# Altium schematic symbol library XCAU10P-1FFVB676E.SchLib: 1 symbol
Pins are listed as number, name and electrical type; pins without a type are passive.

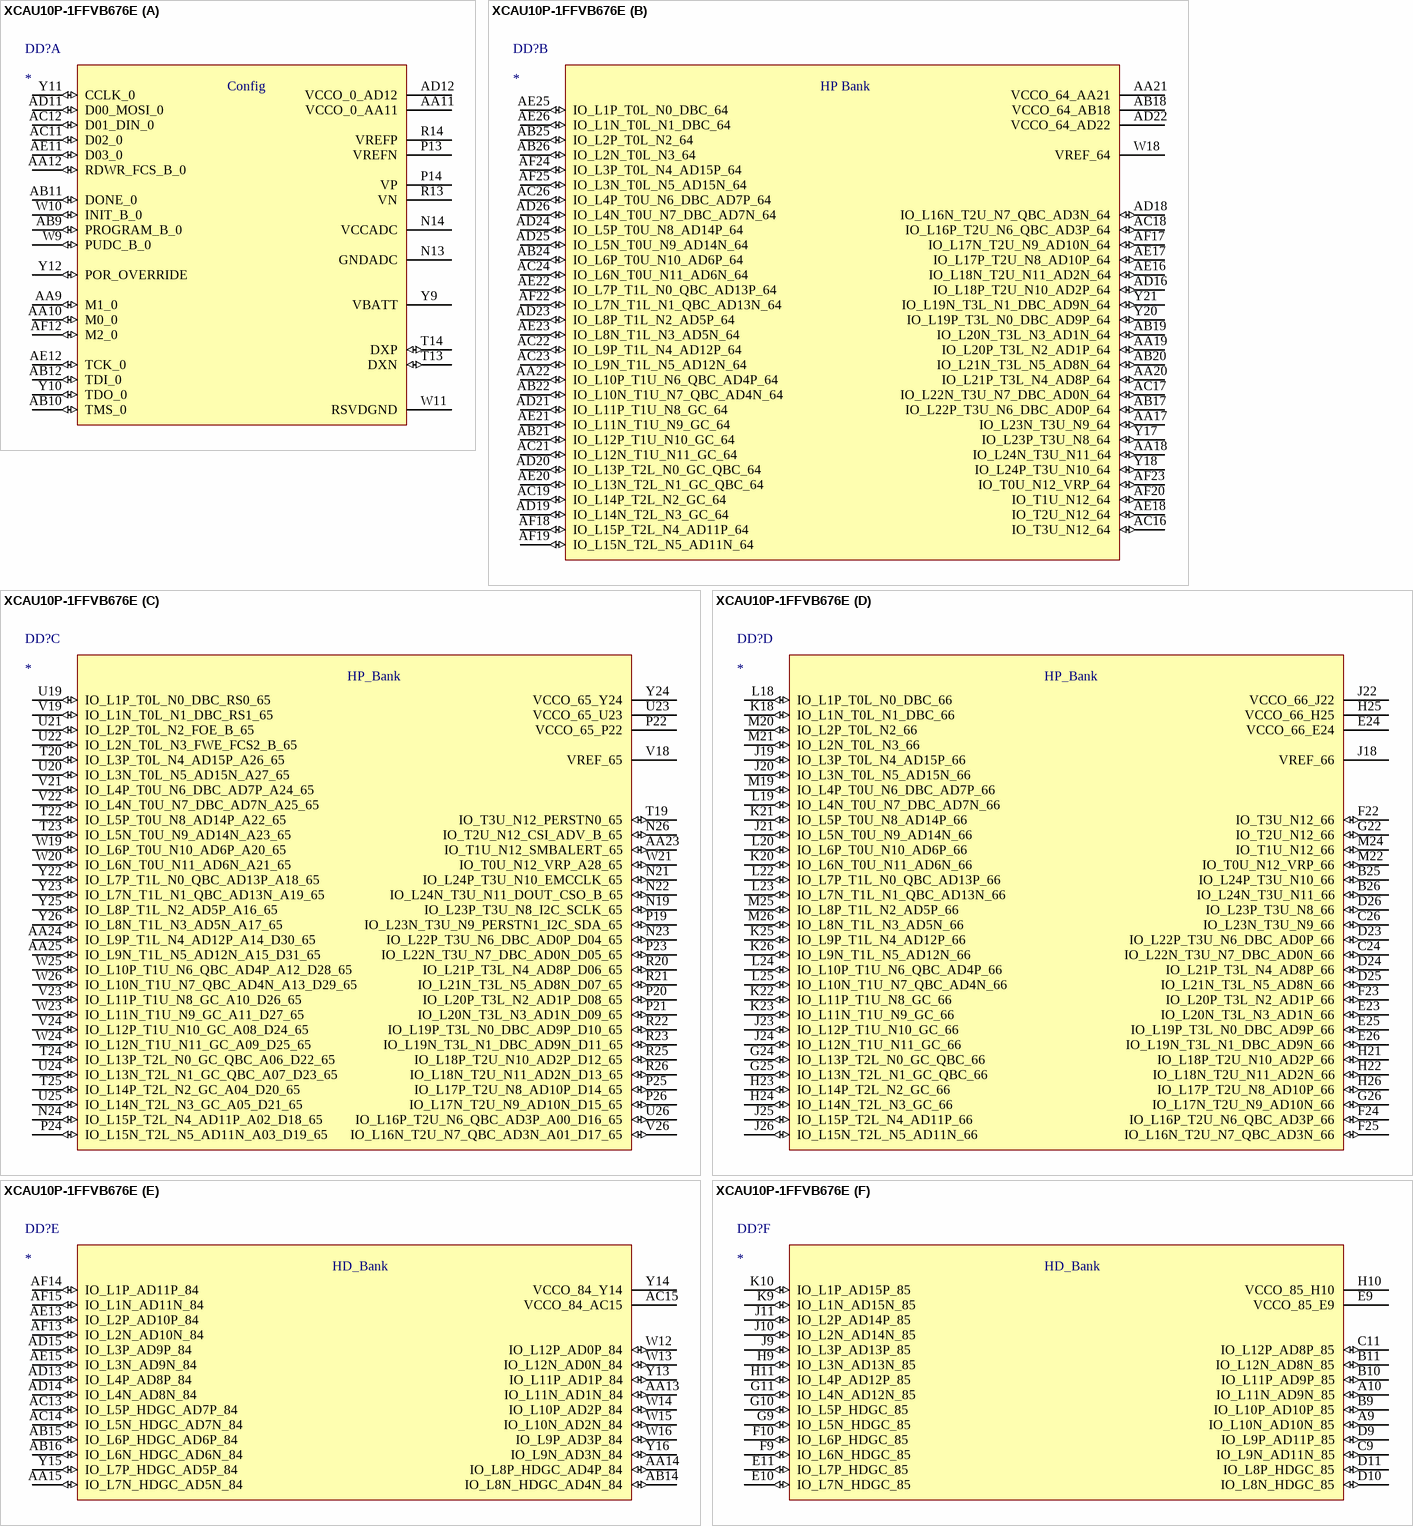
[diagram p0: symbol XCAU10P-1FFVB676E]

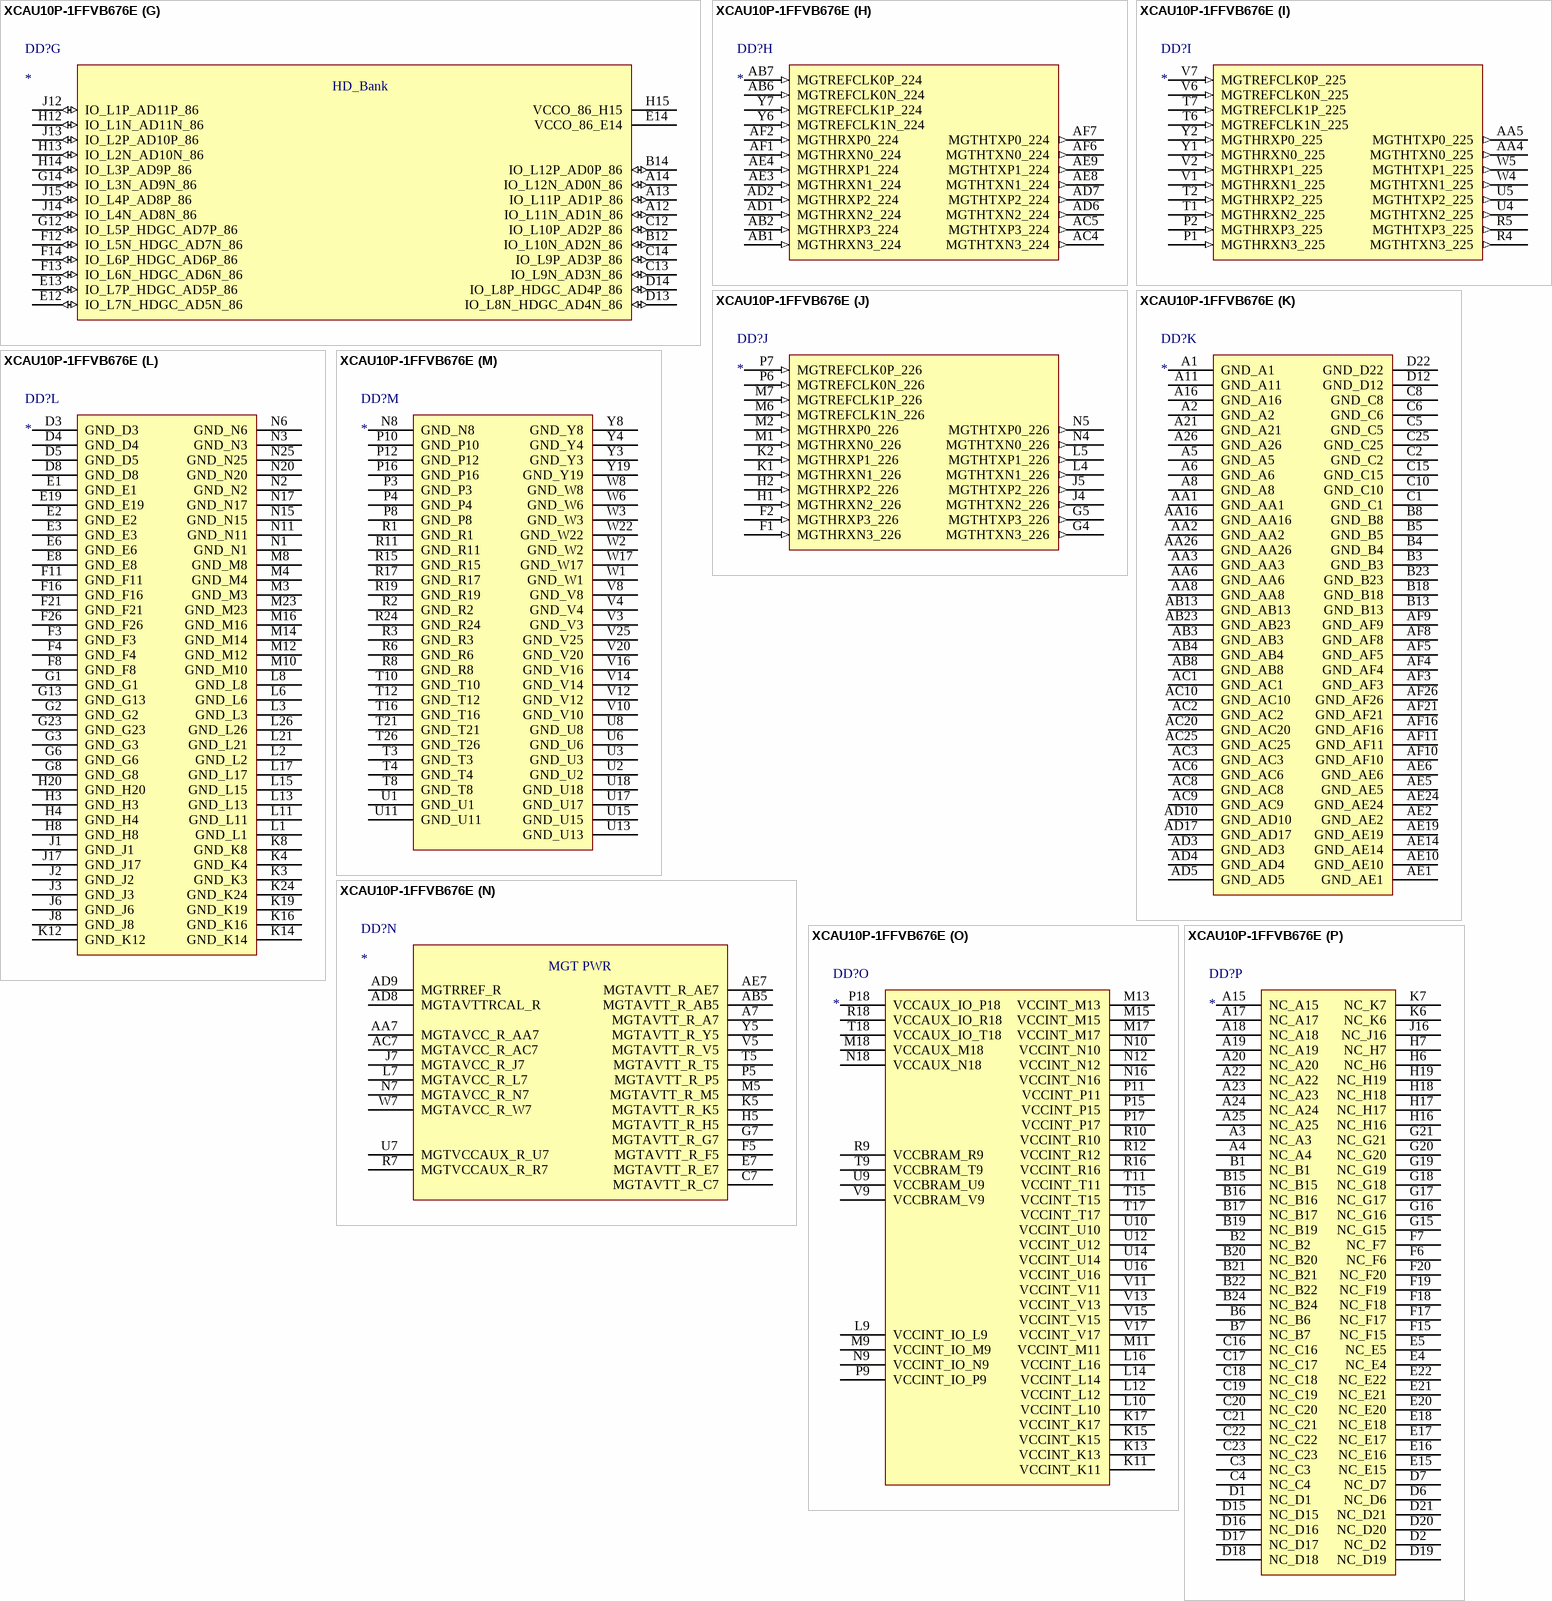
[diagram p1: symbol XCAU10P-1FFVB676E]

## XCAU10P-1FFVB676E
designator DD?
part A pins: AA9 M1_0 (io), AA10 M0_0 (io), AA11 VCCO_0_AA11 (power), AA12 RDWR_FCS_B_0 (io), AB9 PROGRAM_B_0 (io), AB10 TMS_0 (io), AB11 DONE_0 (io), AB12 TDI_0 (io), AC11 D02_0 (io), AC12 D01_DIN_0 (io), AD11 D00_MOSI_0 (io), AD12 VCCO_0_AD12 (power), AE11 D03_0 (io), AE12 TCK_0 (io), AF12 M2_0 (io), N13 GNDADC (power), N14 VCCADC (power), P13 VREFN (power), P14 VP (power), R13 VN (power), R14 VREFP (power), T13 DXN (io), T14 DXP (io), W9 PUDC_B_0 (io), W10 INIT_B_0 (io), W11 RSVDGND (power), Y9 VBATT (power), Y10 TDO_0 (io), Y11 CCLK_0 (io), Y12 POR_OVERRIDE (io)
part B pins: AA17 IO_L23N_T3U_N9_64 (io), AA18 IO_L24N_T3U_N11_64 (io), AA19 IO_L20P_T3L_N2_AD1P_64 (io), AA20 IO_L21P_T3L_N4_AD8P_64 (io), AA21 VCCO_64_AA21 (power), AA22 IO_L10P_T1U_N6_QBC_AD4P_64 (io), AB17 IO_L22P_T3U_N6_DBC_AD0P_64 (io), AB18 VCCO_64_AB18 (power), AB19 IO_L20N_T3L_N3_AD1N_64 (io), AB20 IO_L21N_T3L_N5_AD8N_64 (io), AB21 IO_L12P_T1U_N10_GC_64 (io), AB22 IO_L10N_T1U_N7_QBC_AD4N_64 (io), AB24 IO_L6P_T0U_N10_AD6P_64 (io), AB25 IO_L2P_T0L_N2_64 (io), AB26 IO_L2N_T0L_N3_64 (io), AC16 IO_T3U_N12_64 (io), AC17 IO_L22N_T3U_N7_DBC_AD0N_64 (io), AC18 IO_L16P_T2U_N6_QBC_AD3P_64 (io), AC19 IO_L14P_T2L_N2_GC_64 (io), AC21 IO_L12N_T1U_N11_GC_64 (io), AC22 IO_L9P_T1L_N4_AD12P_64 (io), AC23 IO_L9N_T1L_N5_AD12N_64 (io), AC24 IO_L6N_T0U_N11_AD6N_64 (io), AC26 IO_L4P_T0U_N6_DBC_AD7P_64 (io), AD16 IO_L18P_T2U_N10_AD2P_64 (io), AD18 IO_L16N_T2U_N7_QBC_AD3N_64 (io), AD19 IO_L14N_T2L_N3_GC_64 (io), AD20 IO_L13P_T2L_N0_GC_QBC_64 (io), AD21 IO_L11P_T1U_N8_GC_64 (io), AD22 VCCO_64_AD22 (power), AD23 IO_L8P_T1L_N2_AD5P_64 (io), AD24 IO_L5P_T0U_N8_AD14P_64 (io), AD25 IO_L5N_T0U_N9_AD14N_64 (io), AD26 IO_L4N_T0U_N7_DBC_AD7N_64 (io), AE16 IO_L18N_T2U_N11_AD2N_64 (io), AE17 IO_L17P_T2U_N8_AD10P_64 (io), AE18 IO_T2U_N12_64 (io), AE20 IO_L13N_T2L_N1_GC_QBC_64 (io), AE21 IO_L11N_T1U_N9_GC_64 (io), AE22 IO_L7P_T1L_N0_QBC_AD13P_64 (io), AE23 IO_L8N_T1L_N3_AD5N_64 (io), AE25 IO_L1P_T0L_N0_DBC_64 (io), AE26 IO_L1N_T0L_N1_DBC_64 (io), AF17 IO_L17N_T2U_N9_AD10N_64 (io), AF18 IO_L15P_T2L_N4_AD11P_64 (io), AF19 IO_L15N_T2L_N5_AD11N_64 (io), AF20 IO_T1U_N12_64 (io), AF22 IO_L7N_T1L_N1_QBC_AD13N_64 (io), AF23 IO_T0U_N12_VRP_64 (io), AF24 IO_L3P_T0L_N4_AD15P_64 (io), AF25 IO_L3N_T0L_N5_AD15N_64 (io), W18 VREF_64 (power), Y17 IO_L23P_T3U_N8_64 (io), Y18 IO_L24P_T3U_N10_64 (io), Y20 IO_L19P_T3L_N0_DBC_AD9P_64 (io), Y21 IO_L19N_T3L_N1_DBC_AD9N_64 (io)
part C pins: AA23 IO_T1U_N12_SMBALERT_65 (io), AA24 IO_L9P_T1L_N4_AD12P_A14_D30_65 (io), AA25 IO_L9N_T1L_N5_AD12N_A15_D31_65 (io), N19 IO_L23P_T3U_N8_I2C_SCLK_65 (io), N21 IO_L24P_T3U_N10_EMCCLK_65 (io), N22 IO_L24N_T3U_N11_DOUT_CSO_B_65 (io), N23 IO_L22P_T3U_N6_DBC_AD0P_D04_65 (io), N24 IO_L15P_T2L_N4_AD11P_A02_D18_65 (io), N26 IO_T2U_N12_CSI_ADV_B_65 (io), P19 IO_L23N_T3U_N9_PERSTN1_I2C_SDA_65 (io), P20 IO_L20P_T3L_N2_AD1P_D08_65 (io), P21 IO_L20N_T3L_N3_AD1N_D09_65 (io), P22 VCCO_65_P22 (power), P23 IO_L22N_T3U_N7_DBC_AD0N_D05_65 (io), P24 IO_L15N_T2L_N5_AD11N_A03_D19_65 (io), P25 IO_L17P_T2U_N8_AD10P_D14_65 (io), P26 IO_L17N_T2U_N9_AD10N_D15_65 (io), R20 IO_L21P_T3L_N4_AD8P_D06_65 (io), R21 IO_L21N_T3L_N5_AD8N_D07_65 (io), R22 IO_L19P_T3L_N0_DBC_AD9P_D10_65 (io), R23 IO_L19N_T3L_N1_DBC_AD9N_D11_65 (io), R25 IO_L18P_T2U_N10_AD2P_D12_65 (io), R26 IO_L18N_T2U_N11_AD2N_D13_65 (io), T19 IO_T3U_N12_PERSTN0_65 (io), T20 IO_L3P_T0L_N4_AD15P_A26_65 (io), T22 IO_L5P_T0U_N8_AD14P_A22_65 (io), T23 IO_L5N_T0U_N9_AD14N_A23_65 (io), T24 IO_L13P_T2L_N0_GC_QBC_A06_D22_65 (io), T25 IO_L14P_T2L_N2_GC_A04_D20_65 (io), U19 IO_L1P_T0L_N0_DBC_RS0_65 (io), U20 IO_L3N_T0L_N5_AD15N_A27_65 (io), U21 IO_L2P_T0L_N2_FOE_B_65 (io), U22 IO_L2N_T0L_N3_FWE_FCS2_B_65 (io), U23 VCCO_65_U23 (power), U24 IO_L13N_T2L_N1_GC_QBC_A07_D23_65 (io), U25 IO_L14N_T2L_N3_GC_A05_D21_65 (io), U26 IO_L16P_T2U_N6_QBC_AD3P_A00_D16_65 (io), V18 VREF_65 (power), V19 IO_L1N_T0L_N1_DBC_RS1_65 (io), V21 IO_L4P_T0U_N6_DBC_AD7P_A24_65 (io), V22 IO_L4N_T0U_N7_DBC_AD7N_A25_65 (io), V23 IO_L11P_T1U_N8_GC_A10_D26_65 (io), V24 IO_L12P_T1U_N10_GC_A08_D24_65 (io), V26 IO_L16N_T2U_N7_QBC_AD3N_A01_D17_65 (io), W19 IO_L6P_T0U_N10_AD6P_A20_65 (io), W20 IO_L6N_T0U_N11_AD6N_A21_65 (io), W21 IO_T0U_N12_VRP_A28_65 (io), W23 IO_L11N_T1U_N9_GC_A11_D27_65 (io), W24 IO_L12N_T1U_N11_GC_A09_D25_65 (io), W25 IO_L10P_T1U_N6_QBC_AD4P_A12_D28_65 (io), W26 IO_L10N_T1U_N7_QBC_AD4N_A13_D29_65 (io), Y22 IO_L7P_T1L_N0_QBC_AD13P_A18_65 (io), Y23 IO_L7N_T1L_N1_QBC_AD13N_A19_65 (io), Y24 VCCO_65_Y24 (power), Y25 IO_L8P_T1L_N2_AD5P_A16_65 (io), Y26 IO_L8N_T1L_N3_AD5N_A17_65 (io)
part D pins: B25 IO_L24P_T3U_N10_66 (io), B26 IO_L24N_T3U_N11_66 (io), C24 IO_L22N_T3U_N7_DBC_AD0N_66 (io), C26 IO_L23N_T3U_N9_66 (io), D23 IO_L22P_T3U_N6_DBC_AD0P_66 (io), D24 IO_L21P_T3L_N4_AD8P_66 (io), D25 IO_L21N_T3L_N5_AD8N_66 (io), D26 IO_L23P_T3U_N8_66 (io), E23 IO_L20N_T3L_N3_AD1N_66 (io), E24 VCCO_66_E24 (power), E25 IO_L19P_T3L_N0_DBC_AD9P_66 (io), E26 IO_L19N_T3L_N1_DBC_AD9N_66 (io), F22 IO_T3U_N12_66 (io), F23 IO_L20P_T3L_N2_AD1P_66 (io), F24 IO_L16P_T2U_N6_QBC_AD3P_66 (io), F25 IO_L16N_T2U_N7_QBC_AD3N_66 (io), G22 IO_T2U_N12_66 (io), G24 IO_L13P_T2L_N0_GC_QBC_66 (io), G25 IO_L13N_T2L_N1_GC_QBC_66 (io), G26 IO_L17N_T2U_N9_AD10N_66 (io), H21 IO_L18P_T2U_N10_AD2P_66 (io), H22 IO_L18N_T2U_N11_AD2N_66 (io), H23 IO_L14P_T2L_N2_GC_66 (io), H24 IO_L14N_T2L_N3_GC_66 (io), H25 VCCO_66_H25 (power), H26 IO_L17P_T2U_N8_AD10P_66 (io), J18 VREF_66 (power), J19 IO_L3P_T0L_N4_AD15P_66 (io), J20 IO_L3N_T0L_N5_AD15N_66 (io), J21 IO_L5N_T0U_N9_AD14N_66 (io), J22 VCCO_66_J22 (power), J23 IO_L12P_T1U_N10_GC_66 (io), J24 IO_L12N_T1U_N11_GC_66 (io), J25 IO_L15P_T2L_N4_AD11P_66 (io), J26 IO_L15N_T2L_N5_AD11N_66 (io), K18 IO_L1N_T0L_N1_DBC_66 (io), K20 IO_L6N_T0U_N11_AD6N_66 (io), K21 IO_L5P_T0U_N8_AD14P_66 (io), K22 IO_L11P_T1U_N8_GC_66 (io), K23 IO_L11N_T1U_N9_GC_66 (io), K25 IO_L9P_T1L_N4_AD12P_66 (io), K26 IO_L9N_T1L_N5_AD12N_66 (io), L18 IO_L1P_T0L_N0_DBC_66 (io), L19 IO_L4N_T0U_N7_DBC_AD7N_66 (io), L20 IO_L6P_T0U_N10_AD6P_66 (io), L22 IO_L7P_T1L_N0_QBC_AD13P_66 (io), L23 IO_L7N_T1L_N1_QBC_AD13N_66 (io), L24 IO_L10P_T1U_N6_QBC_AD4P_66 (io), L25 IO_L10N_T1U_N7_QBC_AD4N_66 (io), M19 IO_L4P_T0U_N6_DBC_AD7P_66 (io), M20 IO_L2P_T0L_N2_66 (io), M21 IO_L2N_T0L_N3_66 (io), M22 IO_T0U_N12_VRP_66 (io), M24 IO_T1U_N12_66 (io), M25 IO_L8P_T1L_N2_AD5P_66 (io), M26 IO_L8N_T1L_N3_AD5N_66 (io)
part E pins: AA13 IO_L11N_AD1N_84 (io), AA14 IO_L8P_HDGC_AD4P_84 (io), AA15 IO_L7N_HDGC_AD5N_84 (io), AB14 IO_L8N_HDGC_AD4N_84 (io), AB15 IO_L6P_HDGC_AD6P_84 (io), AB16 IO_L6N_HDGC_AD6N_84 (io), AC13 IO_L5P_HDGC_AD7P_84 (io), AC14 IO_L5N_HDGC_AD7N_84 (io), AC15 VCCO_84_AC15 (power), AD13 IO_L4P_AD8P_84 (io), AD14 IO_L4N_AD8N_84 (io), AD15 IO_L3P_AD9P_84 (io), AE13 IO_L2P_AD10P_84 (io), AE15 IO_L3N_AD9N_84 (io), AF13 IO_L2N_AD10N_84 (io), AF14 IO_L1P_AD11P_84 (io), AF15 IO_L1N_AD11N_84 (io), W12 IO_L12P_AD0P_84 (io), W13 IO_L12N_AD0N_84 (io), W14 IO_L10P_AD2P_84 (io), W15 IO_L10N_AD2N_84 (io), W16 IO_L9P_AD3P_84 (io), Y13 IO_L11P_AD1P_84 (io), Y14 VCCO_84_Y14 (power), Y15 IO_L7P_HDGC_AD5P_84 (io), Y16 IO_L9N_AD3N_84 (io)
part F pins: A9 IO_L10N_AD10N_85 (io), A10 IO_L11N_AD9N_85 (io), B9 IO_L10P_AD10P_85 (io), B10 IO_L11P_AD9P_85 (io), B11 IO_L12N_AD8N_85 (io), C9 IO_L9N_AD11N_85 (io), C11 IO_L12P_AD8P_85 (io), D9 IO_L9P_AD11P_85 (io), D10 IO_L8N_HDGC_85 (io), D11 IO_L8P_HDGC_85 (io), E9 VCCO_85_E9 (power), E10 IO_L7N_HDGC_85 (io), E11 IO_L7P_HDGC_85 (io), F9 IO_L6N_HDGC_85 (io), F10 IO_L6P_HDGC_85 (io), G9 IO_L5N_HDGC_85 (io), G10 IO_L5P_HDGC_85 (io), G11 IO_L4N_AD12N_85 (io), H9 IO_L3N_AD13N_85 (io), H10 VCCO_85_H10 (power), H11 IO_L4P_AD12P_85 (io), J9 IO_L3P_AD13P_85 (io), J10 IO_L2N_AD14N_85 (io), J11 IO_L2P_AD14P_85 (io), K9 IO_L1N_AD15N_85 (io), K10 IO_L1P_AD15P_85 (io)
part G pins: A12 IO_L11N_AD1N_86 (io), A13 IO_L11P_AD1P_86 (io), A14 IO_L12N_AD0N_86 (io), B12 IO_L10N_AD2N_86 (io), B14 IO_L12P_AD0P_86 (io), C12 IO_L10P_AD2P_86 (io), C13 IO_L9N_AD3N_86 (io), C14 IO_L9P_AD3P_86 (io), D13 IO_L8N_HDGC_AD4N_86 (io), D14 IO_L8P_HDGC_AD4P_86 (io), E12 IO_L7N_HDGC_AD5N_86 (io), E13 IO_L7P_HDGC_AD5P_86 (io), E14 VCCO_86_E14 (power), F12 IO_L5N_HDGC_AD7N_86 (io), F13 IO_L6N_HDGC_AD6N_86 (io), F14 IO_L6P_HDGC_AD6P_86 (io), G12 IO_L5P_HDGC_AD7P_86 (io), G14 IO_L3N_AD9N_86 (io), H12 IO_L1N_AD11N_86 (io), H13 IO_L2N_AD10N_86 (io), H14 IO_L3P_AD9P_86 (io), H15 VCCO_86_H15 (power), J12 IO_L1P_AD11P_86 (io), J13 IO_L2P_AD10P_86 (io), J14 IO_L4N_AD8N_86 (io), J15 IO_L4P_AD8P_86 (io)
part H pins: AB1 MGTHRXN3_224 (in), AB2 MGTHRXP3_224 (in), AB6 MGTREFCLK0N_224 (in), AB7 MGTREFCLK0P_224 (in), AC4 MGTHTXN3_224 (out), AC5 MGTHTXP3_224 (out), AD1 MGTHRXN2_224 (in), AD2 MGTHRXP2_224 (in), AD6 MGTHTXN2_224 (out), AD7 MGTHTXP2_224 (out), AE3 MGTHRXN1_224 (in), AE4 MGTHRXP1_224 (in), AE8 MGTHTXN1_224 (out), AE9 MGTHTXP1_224 (out), AF1 MGTHRXN0_224 (in), AF2 MGTHRXP0_224 (in), AF6 MGTHTXN0_224 (out), AF7 MGTHTXP0_224 (out), Y6 MGTREFCLK1N_224 (in), Y7 MGTREFCLK1P_224 (in)
part I pins: AA4 MGTHTXN0_225 (out), AA5 MGTHTXP0_225 (out), P1 MGTHRXN3_225 (in), P2 MGTHRXP3_225 (in), R4 MGTHTXN3_225 (out), R5 MGTHTXP3_225 (out), T1 MGTHRXN2_225 (in), T2 MGTHRXP2_225 (in), T6 MGTREFCLK1N_225 (in), T7 MGTREFCLK1P_225 (in), U4 MGTHTXN2_225 (out), U5 MGTHTXP2_225 (out), V1 MGTHRXN1_225 (in), V2 MGTHRXP1_225 (in), V6 MGTREFCLK0N_225 (in), V7 MGTREFCLK0P_225 (in), W4 MGTHTXN1_225 (out), W5 MGTHTXP1_225 (out), Y1 MGTHRXN0_225 (in), Y2 MGTHRXP0_225 (in)
part J pins: F1 MGTHRXN3_226 (in), F2 MGTHRXP3_226 (in), G4 MGTHTXN3_226 (out), G5 MGTHTXP3_226 (out), H1 MGTHRXN2_226 (in), H2 MGTHRXP2_226 (in), J4 MGTHTXN2_226 (out), J5 MGTHTXP2_226 (out), K1 MGTHRXN1_226 (in), K2 MGTHRXP1_226 (in), L4 MGTHTXN1_226 (out), L5 MGTHTXP1_226 (out), M1 MGTHRXN0_226 (in), M2 MGTHRXP0_226 (in), M6 MGTREFCLK1N_226 (in), M7 MGTREFCLK1P_226 (in), N4 MGTHTXN0_226 (out), N5 MGTHTXP0_226 (out), P6 MGTREFCLK0N_226 (in), P7 MGTREFCLK0P_226 (in)
part K pins: A1 GND_A1 (power), A2 GND_A2 (power), A5 GND_A5 (power), A6 GND_A6 (power), A8 GND_A8 (power), A11 GND_A11 (power), A16 GND_A16 (power), A21 GND_A21 (power), A26 GND_A26 (power), AA1 GND_AA1 (power), AA2 GND_AA2 (power), AA3 GND_AA3 (power), AA6 GND_AA6 (power), AA8 GND_AA8 (power), AA16 GND_AA16 (power), AA26 GND_AA26 (power), AB3 GND_AB3 (power), AB4 GND_AB4 (power), AB8 GND_AB8 (power), AB13 GND_AB13 (power), AB23 GND_AB23 (power), AC1 GND_AC1 (power), AC2 GND_AC2 (power), AC3 GND_AC3 (power), AC6 GND_AC6 (power), AC8 GND_AC8 (power), AC9 GND_AC9 (power), AC10 GND_AC10 (power), AC20 GND_AC20 (power), AC25 GND_AC25 (power), AD3 GND_AD3 (power), AD4 GND_AD4 (power), AD5 GND_AD5 (power), AD10 GND_AD10 (power), AD17 GND_AD17 (power), AE1 GND_AE1 (power), AE2 GND_AE2 (power), AE5 GND_AE5 (power), AE6 GND_AE6 (power), AE10 GND_AE10 (power), AE14 GND_AE14 (power), AE19 GND_AE19 (power), AE24 GND_AE24 (power), AF3 GND_AF3 (power), AF4 GND_AF4 (power), AF5 GND_AF5 (power), AF8 GND_AF8 (power), AF9 GND_AF9 (power), AF10 GND_AF10 (power), AF11 GND_AF11 (power), AF16 GND_AF16 (power), AF21 GND_AF21 (power), AF26 GND_AF26 (power), B3 GND_B3 (power), B4 GND_B4 (power), B5 GND_B5 (power), B8 GND_B8 (power), B13 GND_B13 (power), B18 GND_B18 (power), B23 GND_B23 (power), C1 GND_C1 (power), C2 GND_C2 (power), C5 GND_C5 (power), C6 GND_C6 (power), C8 GND_C8 (power), C10 GND_C10 (power), C15 GND_C15 (power), C25 GND_C25 (power), D12 GND_D12 (power), D22 GND_D22 (power)
part L pins: D3 GND_D3 (power), D4 GND_D4 (power), D5 GND_D5 (power), D8 GND_D8 (power), E1 GND_E1 (power), E2 GND_E2 (power), E3 GND_E3 (power), E6 GND_E6 (power), E8 GND_E8 (power), E19 GND_E19 (power), F3 GND_F3 (power), F4 GND_F4 (power), F8 GND_F8 (power), F11 GND_F11 (power), F16 GND_F16 (power), F21 GND_F21 (power), F26 GND_F26 (power), G1 GND_G1 (power), G2 GND_G2 (power), G3 GND_G3 (power), G6 GND_G6 (power), G8 GND_G8 (power), G13 GND_G13 (power), G23 GND_G23 (power), H3 GND_H3 (power), H4 GND_H4 (power), H8 GND_H8 (power), H20 GND_H20 (power), J1 GND_J1 (power), J2 GND_J2 (power), J3 GND_J3 (power), J6 GND_J6 (power), J8 GND_J8 (power), J17 GND_J17 (power), K3 GND_K3 (power), K4 GND_K4 (power), K8 GND_K8 (power), K12 GND_K12 (power), K14 GND_K14 (power), K16 GND_K16 (power), K19 GND_K19 (power), K24 GND_K24 (power), L1 GND_L1 (power), L2 GND_L2 (power), L3 GND_L3 (power), L6 GND_L6 (power), L8 GND_L8 (power), L11 GND_L11 (power), L13 GND_L13 (power), L15 GND_L15 (power), L17 GND_L17 (power), L21 GND_L21 (power), L26 GND_L26 (power), M3 GND_M3 (power), M4 GND_M4 (power), M8 GND_M8 (power), M10 GND_M10 (power), M12 GND_M12 (power), M14 GND_M14 (power), M16 GND_M16 (power), M23 GND_M23 (power), N1 GND_N1 (power), N2 GND_N2 (power), N3 GND_N3 (power), N6 GND_N6 (power), N11 GND_N11 (power), N15 GND_N15 (power), N17 GND_N17 (power), N20 GND_N20 (power), N25 GND_N25 (power)
part M pins: N8 GND_N8 (power), P3 GND_P3 (power), P4 GND_P4 (power), P8 GND_P8 (power), P10 GND_P10 (power), P12 GND_P12 (power), P16 GND_P16 (power), R1 GND_R1 (power), R2 GND_R2 (power), R3 GND_R3 (power), R6 GND_R6 (power), R8 GND_R8 (power), R11 GND_R11 (power), R15 GND_R15 (power), R17 GND_R17 (power), R19 GND_R19 (power), R24 GND_R24 (power), T3 GND_T3 (power), T4 GND_T4 (power), T8 GND_T8 (power), T10 GND_T10 (power), T12 GND_T12 (power), T16 GND_T16 (power), T21 GND_T21 (power), T26 GND_T26 (power), U1 GND_U1 (power), U2 GND_U2 (power), U3 GND_U3 (power), U6 GND_U6 (power), U8 GND_U8 (power), U11 GND_U11 (power), U13 GND_U13 (power), U15 GND_U15 (power), U17 GND_U17 (power), U18 GND_U18 (power), V3 GND_V3 (power), V4 GND_V4 (power), V8 GND_V8 (power), V10 GND_V10 (power), V12 GND_V12 (power), V14 GND_V14 (power), V16 GND_V16 (power), V20 GND_V20 (power), V25 GND_V25 (power), W1 GND_W1 (power), W2 GND_W2 (power), W3 GND_W3 (power), W6 GND_W6 (power), W8 GND_W8 (power), W17 GND_W17 (power), W22 GND_W22 (power), Y3 GND_Y3 (power), Y4 GND_Y4 (power), Y8 GND_Y8 (power), Y19 GND_Y19 (power)
part N pins: A7 MGTAVTT_R_A7 (power), AA7 MGTAVCC_R_AA7 (power), AB5 MGTAVTT_R_AB5 (power), AC7 MGTAVCC_R_AC7 (power), AD8 MGTAVTTRCAL_R (power), AD9 MGTRREF_R (power), AE7 MGTAVTT_R_AE7 (power), C7 MGTAVTT_R_C7 (power), E7 MGTAVTT_R_E7 (power), F5 MGTAVTT_R_F5 (power), G7 MGTAVTT_R_G7 (power), H5 MGTAVTT_R_H5 (power), J7 MGTAVCC_R_J7 (power), K5 MGTAVTT_R_K5 (power), L7 MGTAVCC_R_L7 (power), M5 MGTAVTT_R_M5 (power), N7 MGTAVCC_R_N7 (power), P5 MGTAVTT_R_P5 (power), R7 MGTVCCAUX_R_R7 (power), T5 MGTAVTT_R_T5 (power), U7 MGTVCCAUX_R_U7 (power), V5 MGTAVTT_R_V5 (power), W7 MGTAVCC_R_W7 (power), Y5 MGTAVTT_R_Y5 (power)
part O pins: K11 VCCINT_K11 (power), K13 VCCINT_K13 (power), K15 VCCINT_K15 (power), K17 VCCINT_K17 (power), L9 VCCINT_IO_L9 (power), L10 VCCINT_L10 (power), L12 VCCINT_L12 (power), L14 VCCINT_L14 (power), L16 VCCINT_L16 (power), M9 VCCINT_IO_M9 (power), M11 VCCINT_M11 (power), M13 VCCINT_M13 (power), M15 VCCINT_M15 (power), M17 VCCINT_M17 (power), M18 VCCAUX_M18 (power), N9 VCCINT_IO_N9 (power), N10 VCCINT_N10 (power), N12 VCCINT_N12 (power), N16 VCCINT_N16 (power), N18 VCCAUX_N18 (power), P9 VCCINT_IO_P9 (power), P11 VCCINT_P11 (power), P15 VCCINT_P15 (power), P17 VCCINT_P17 (power), P18 VCCAUX_IO_P18 (power), R9 VCCBRAM_R9 (power), R10 VCCINT_R10 (power), R12 VCCINT_R12 (power), R16 VCCINT_R16 (power), R18 VCCAUX_IO_R18 (power), T9 VCCBRAM_T9 (power), T11 VCCINT_T11 (power), T15 VCCINT_T15 (power), T17 VCCINT_T17 (power), T18 VCCAUX_IO_T18 (power), U9 VCCBRAM_U9 (power), U10 VCCINT_U10 (power), U12 VCCINT_U12 (power), U14 VCCINT_U14 (power), U16 VCCINT_U16 (power), V9 VCCBRAM_V9 (power), V11 VCCINT_V11 (power), V13 VCCINT_V13 (power), V15 VCCINT_V15 (power), V17 VCCINT_V17 (power)
part P pins: A3 NC_A3, A4 NC_A4, A15 NC_A15, A17 NC_A17, A18 NC_A18, A19 NC_A19, A20 NC_A20, A22 NC_A22, A23 NC_A23, A24 NC_A24, A25 NC_A25, B1 NC_B1, B2 NC_B2, B6 NC_B6, B7 NC_B7, B15 NC_B15, B16 NC_B16, B17 NC_B17, B19 NC_B19, B20 NC_B20, B21 NC_B21, B22 NC_B22, B24 NC_B24, C3 NC_C3, C4 NC_C4, C16 NC_C16, C17 NC_C17, C18 NC_C18, C19 NC_C19, C20 NC_C20, C21 NC_C21, C22 NC_C22, C23 NC_C23, D1 NC_D1, D2 NC_D2, D6 NC_D6, D7 NC_D7, D15 NC_D15, D16 NC_D16, D17 NC_D17, D18 NC_D18, D19 NC_D19, D20 NC_D20, D21 NC_D21, E4 NC_E4, E5 NC_E5, E15 NC_E15, E16 NC_E16, E17 NC_E17, E18 NC_E18, E20 NC_E20, E21 NC_E21, E22 NC_E22, F6 NC_F6, F7 NC_F7, F15 NC_F15, F17 NC_F17, F18 NC_F18, F19 NC_F19, F20 NC_F20, G15 NC_G15, G16 NC_G16, G17 NC_G17, G18 NC_G18, G19 NC_G19, G20 NC_G20, G21 NC_G21, H6 NC_H6, H7 NC_H7, H16 NC_H16, H17 NC_H17, H18 NC_H18, H19 NC_H19, J16 NC_J16, K6 NC_K6, K7 NC_K7
part A text: Config
part B text: HP Bank
part C text: HP_Bank
part D text: HP_Bank
part E text: HD_Bank
part F text: HD_Bank
part G text: HD_Bank
part N text: MGT PWR